# EAGLE library part ZIF-2X20-PTH (library Jordi)
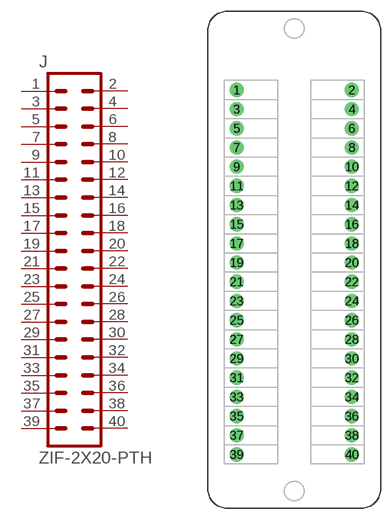
[diagram p12: symbol with the pads of ZIF-2X20-PTH; footprint ZIF-2X20-PTH]

Designator prefix J

## ZIF-2X20-PTHPTH  [ZIF-2X20-PTH]
1  1  pas
2  2  pas
3  3  pas
4  4  pas
5  5  pas
6  6  pas
7  7  pas
8  8  pas
9  9  pas
10  10  pas
11  11  pas
12  12  pas
13  13  pas
14  14  pas
15  15  pas
16  16  pas
17  17  pas
18  18  pas
19  19  pas
20  20  pas
21  21  pas
22  22  pas
23  23  pas
24  24  pas
25  25  pas
26  26  pas
27  27  pas
28  28  pas
29  29  pas
30  30  pas
31  31  pas
32  32  pas
33  33  pas
34  34  pas
35  35  pas
36  36  pas
37  37  pas
38  38  pas
39  39  pas
40  40  pas

## Footprint ZIF-2X20-PTH (pad centres in mm)
Adafruit Part <https://www.adafruit.com/products/383> Datasheet <http://multimedia.3m.com/mws/mediawebserver?mwsId=SSSSSu7zK1fslxtUPY_1MxTSev7qe17zHvTSevTSeSSSSSS-->
drill 1.016 pad 1.88: 1 -7.62,24.13; 2 7.62,24.13; 3 -7.62,21.59; 4 7.62,21.59; 5 -7.62,19.05; 6 7.62,19.05; 7 -7.62,16.51; 8 7.62,16.51; 9 -7.62,13.97; 10 7.62,13.97; 11 -7.62,11.43; 12 7.62,11.43; 13 -7.62,8.89; 14 7.62,8.89; 15 -7.62,6.35; 16 7.62,6.35; 17 -7.62,3.81; 18 7.62,3.81; 19 -7.62,1.27; 20 7.62,1.27; 21 -7.62,-1.27; 22 7.62,-1.27; 23 -7.62,-3.81; 24 7.62,-3.81; 25 -7.62,-6.35; 26 7.62,-6.35; 27 -7.62,-8.89; 28 7.62,-8.89; 29 -7.62,-11.43; 30 7.62,-11.43; 31 -7.62,-13.97; 32 7.62,-13.97; 33 -7.62,-16.51; 34 7.62,-16.51; 35 -7.62,-19.05; 36 7.62,-19.05; 37 -7.62,-21.59; 38 7.62,-21.59; 39 -7.62,-24.13; 40 7.62,-24.13